# EAGLE library part 662008236022 (library Wire_to_Board_Connectors_rev15d)
WR-MPC3 3.00mm Male Dual Row SMT Angled Header with Plastic Pegs, 8 Pins=>Code : Con_WTB_MPC3_2_PCB_SMT_662008236022 <http://katalog.we-online.de/media/thumbs2/eican/thb_Con_WTB_MPC3_2_PCB_SMT_6620xx236022_pf2.jpg> Details see: http://katalog.we-online.de/en/em/662_0xx_236_022 Created 2014-06-06, Karrer Zheng 2014 (C) Würth Elektronik
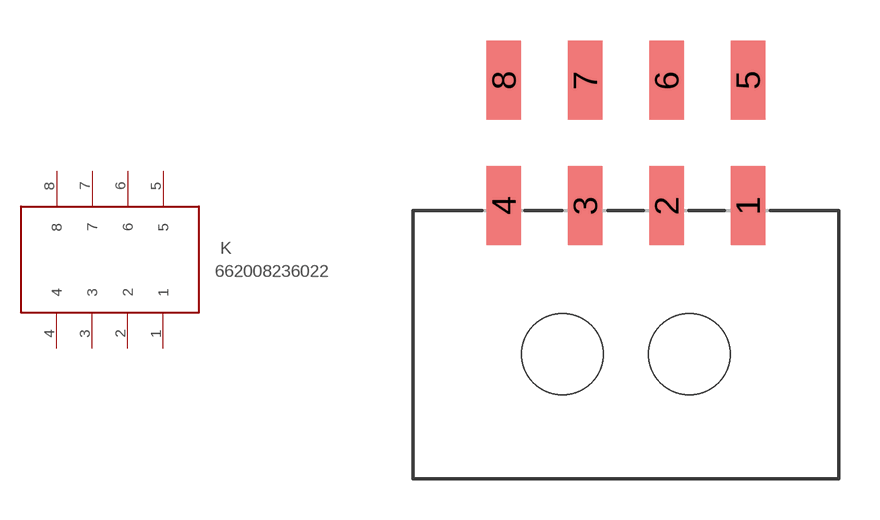
[diagram p344: symbol with the pads of 662008236022; footprint 662008236022]

Designator prefix K

## 662008236022  [662008236022]
1  1
2  2
3  3
4  4
5  5
6  6
7  7
8  8

## Footprint 662008236022 (pad centres in mm)
WR-MPC3 3.00mm Male Dual Row SMT Angled Header with Plastic Pegs, 8 Pins
smd 1.27 x 2.92: 1 4.5,5.48; 2 1.5,5.48; 3 -1.5,5.48; 4 -4.5,5.48; 5 4.5,10.1; 6 1.5,10.1; 7 -1.5,10.1; 8 -4.5,10.1
hole 3 at 2.34,0
hole 3 at -2.34,0